# Altium footprint library Inductors_Power.PCBLIB: 45 footprints (part 1 of 3)
Each footprint in its own frame and in the unit in brackets; x right, y up, seen from the top. Pads: shape width x height; smd on the part's side, far side on the other; paste and mask are expansions set on the pad; w line width, h text height; cw(c..) or ccw(c..) is an arc to the next point about the centre after c.
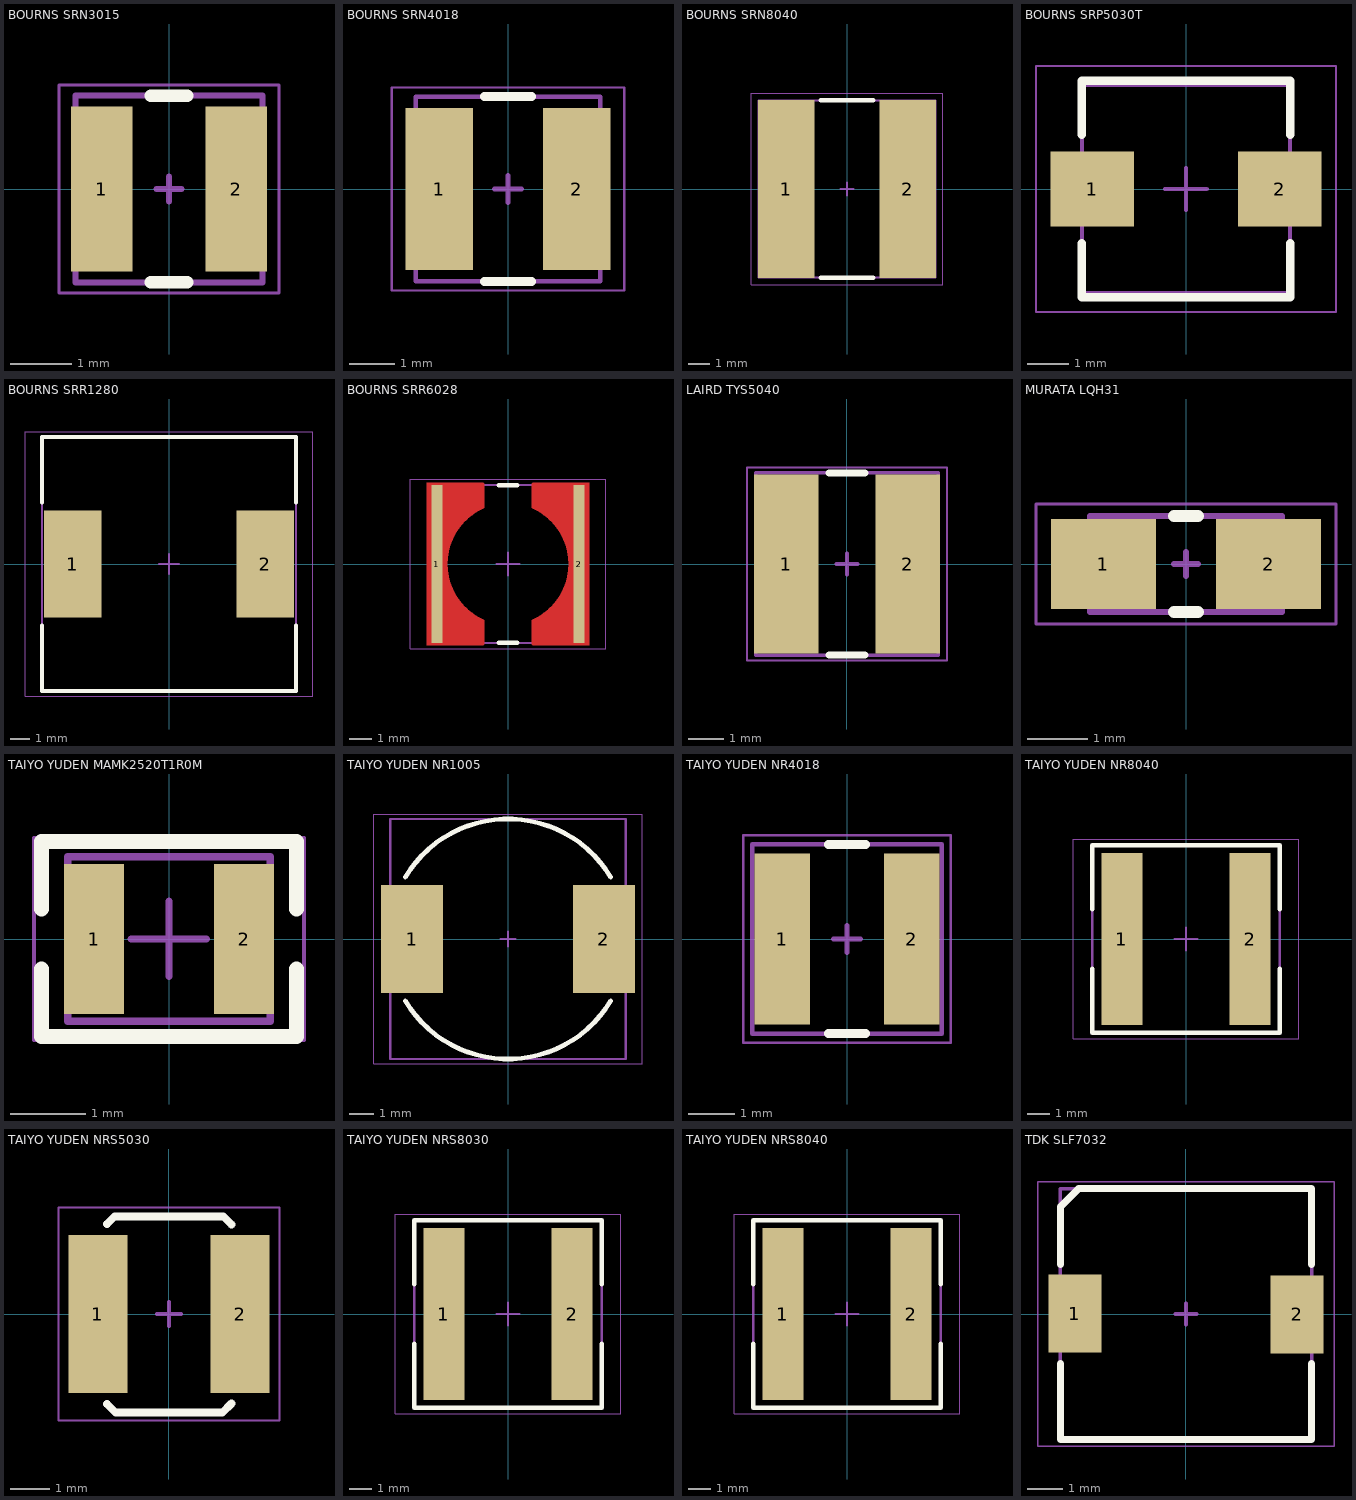
[diagram p0: the footprints below, top view; thin cyan lines are the x and y axes]

## BOURNS SRN3015 [mm] "Power Inductors, 2 Leads, Bourns, SRN3015-2R2M"
height 1.5
pads (2):
  rect 1x2.7 smd: 1(-1.1,0) 2(1.1,0)
Top Overlay:
  lines w0.2: -0.3,-1.525 0.3,-1.525 ; -0.3,1.525 0.3,1.525
Mechanical 13:
  lines w0.1: -1.525,-1.525 -1.525,1.525 1.525,1.525 1.525,-1.525 -1.525,-1.525
Mechanical 15 (Mech15):
  lines w0.05: -1.8,-1.7 1.8,-1.7 1.8,1.7 -1.8,1.7 -1.8,-1.7
  lines w0.1: -0.2,0 0.2,0 ; 0,-0.2 0,0.2
3D body "Bourns - SRN3015.step": height 1.5, standoff 0, extent -1.525,-1.525 1.525,1.525

## BOURNS SRN4018 [mm] "Power Inductor, 2-Leads, Bourns, SRN4018-220M"
height 1.8
pads (2):
  rect 1.5x3.6 smd: 1(-1.525,0) 2(1.525,0)
Top Overlay:
  lines w0.2: -0.525,-2.05 0.525,-2.05 ; -0.525,2.05 0.525,2.05
Mechanical 13:
  lines w0.1: -2.05,-2.05 -2.05,2.05 2.05,2.05 2.05,-2.05 -2.05,-2.05
Mechanical 15 (Mech15):
  lines w0.05: -2.575,-2.25 -2.575,2.25 2.575,2.25 2.575,-2.25 -2.575,-2.25
  lines w0.1: -0.3,0 0.3,0 ; 0,-0.3 0,0.3
3D body "Bourns - SRN4018.step": height 1.8, standoff 0, extent -2.05,-2.05 2.05,2.05

## BOURNS SRN8040 [mm] "Power Inductor, 2-Leads, Bourns, SRN8040-220M"
height 4
pads (2):
  rect 2.6x8.2 smd: 1(-2.8,0) 2(2.8,0)
Top Overlay:
  lines w0.2: -1.2,-4.075 1.2,-4.075 ; -1.2,4.075 1.2,4.075
Mechanical 13:
  lines w0.1: -4.075,-4.075 -4.075,4.075 4.075,4.075 4.075,-4.075 -4.075,-4.075
Mechanical 15 (Mech15):
  lines w0.05: -4.4,-4.4 4.4,-4.4 4.4,4.4 -4.4,4.4 -4.4,-4.4
  lines w0.1: -0.3,0 0.3,0 ; 0,-0.3 0,0.3
3D body "Bourns - SRN8040.step": height 4, standoff 0, extent -4.075,-4.075 4.075,4.075

## BOURNS SRP5030T [mm] "Precision Wire Wound Inductor, 2-Leads, Body 5.70x5.20mm, IPC Medium Density"
height 3
pads (2):
  rect 2x1.8 smd: 1(-2.25,0) 2(2.25,0)
Top Overlay:
  lines w0.2: -2.5,-1.3 -2.5,-2.6 2.5,-2.6 2.5,-1.3 ; -2.5,1.3 -2.5,2.6 2.5,2.6 2.5,1.3
Mechanical 13:
  lines w0.1: -2.5,-2.5 2.5,-2.5 2.5,2.5 -2.5,2.5 -2.5,-2.5
Mechanical 15 (Mech15):
  lines w0.05: -3.6,-2.95 3.6,-2.95 3.6,2.95 -3.6,2.95 -3.6,-2.95
  lines w0.1: -0.5,0 0.5,0 ; 0,-0.5 0,0.5
3D body "Bourns SRP5030T.STEP": height 3, standoff 0, extent -2.85,-2.6 2.85,2.6

## BOURNS SRR1280 [mm] "Precision Wire Wound Inductor, 2-Leads, Body 12.50x12.50mm, IPC Medium Density"
height 8
pads (2):
  rect 2.9x5.4 smd: 1(-4.85,0) 2(4.85,0)
Top Overlay:
  lines w0.2: -6.4,-3.1 -6.4,-6.4 6.4,-6.4 6.4,-3.1 ; -6.4,3.1 -6.4,6.4 6.4,6.4 6.4,3.1
Mechanical 13:
  lines w0.1: -6.4,-6.4 6.4,-6.4 6.4,6.4 -6.4,6.4 -6.4,-6.4
Mechanical 15 (Mech15):
  lines w0.05: -7.225,-6.65 7.225,-6.65 7.225,6.65 -7.225,6.65 -7.225,-6.65
  lines w0.1: -0.5,0 0.5,0 ; 0,-0.5 0,0.5
3D body "SRR1280.STEP": height 7.9, standoff 0, extent -6.25,-6.25 6.25,6.25

## BOURNS SRR6028 [mm] "Precision Wire Wound Inductor, 2-Leads, Body 6.80x6.80mm, IPC Medium Density"
height 3
pads (2):
  rect 0.5x7 smd: 1(-3.15,0) 2(3.15,0)
Top Layer:
  region: -3.6,3.6 -1.1,3.6 -1.1,2.5 -1.4,2.4 -1.7,2.1 -1.9,2 -2.1,1.7 -2.3,1.4 -2.5,1 -2.6,0.7 -2.7,0.3 -2.7,0 -3.6,0
  region: -3.6,-3.6 -1.1,-3.6 -1.1,-2.5 -1.4,-2.4 -1.7,-2.1 -1.9,-2 -2.1,-1.7 -2.3,-1.4 -2.5,-1 -2.6,-0.7 -2.7,-0.3 -2.7,0 -3.6,0
  region: 3.6,-3.6 1.1,-3.6 1.1,-2.5 1.4,-2.4 1.7,-2.1 1.9,-2 2.1,-1.7 2.3,-1.4 2.5,-1 2.6,-0.7 2.7,-0.3 2.7,0 3.6,0
  region: 3.6,3.6 1.1,3.6 1.1,2.5 1.4,2.4 1.7,2.1 1.9,2 2.1,1.7 2.3,1.4 2.5,1 2.6,0.7 2.7,0.3 2.7,0 3.6,0
  lines w0.1: -1.1,-3.55 -1.1,-2.5 ; -1.1,-2.5 cw(c0,0) -2.731,0 cw(c0,0) -1.1,2.5 ; -1.1,2.5 -1.1,3.55 ; 1.1,-3.55 1.1,-2.5 ; 1.1,-2.5 ccw(c0,0) 2.731,0 ccw(c0,0) 1.1,2.5 ; 1.1,2.5 1.1,3.55
Top Overlay:
  lines w0.2: -0.4,-3.5 0.4,-3.5 ; -0.4,3.5 0.4,3.5
Mechanical 13:
  lines w0.1: -3.5,-3.5 -3.5,3.5 3.5,3.5 3.5,-3.5 -3.5,-3.5
Mechanical 15 (Mech15):
  lines w0.05: -4.325,-3.75 -4.325,3.75 4.325,3.75 4.325,-3.75 -4.325,-3.75
  lines w0.1: -0.5,0 0.5,0 ; 0,-0.5 0,0.5
3D body "Bourns SRR6028.STEP": height 2.8, standoff 0, extent -3.4,-3.4 3.4,3.4

## LAIRD TYS5040 [mm] "Power Inductor, 2-Leads,Laird, TYS50402R2N-10"
height 4.2
pads (2):
  rect 1.8x5 smd: 1(-1.7,0) 2(1.7,0)
Top Overlay:
  lines w0.2: -0.5,-2.55 0.5,-2.55 ; -0.5,2.55 0.5,2.55
Mechanical 13:
  lines w0.1: -2.55,-2.55 -2.55,2.55 2.55,2.55 2.55,-2.55 -2.55,-2.55
Mechanical 15 (Mech15):
  lines w0.05: -2.8,-2.7 -2.8,2.7 2.8,2.7 2.8,-2.7 -2.8,-2.7
  lines w0.1: -0.3,0 0.3,0 ; 0,-0.3 0,0.3
3D body "Laird - TYS5040.step": height 4.2, standoff 0, extent -2.55,-2.55 2.55,2.55

## MURATA LQH31 [mm] "Power Inductor, 2-Leads,Murata, LQH31CN101K03L"
height 2
pads (2):
  rect 1.75x1.5 smd: 1(-1.375,0) 2(1.375,0)
Top Overlay:
  lines w0.2: -0.2,-0.8 0.2,-0.8 ; -0.2,0.8 0.2,0.8
Mechanical 13:
  lines w0.1: -1.6,-0.8 1.6,-0.8 1.6,0.8 -1.6,0.8 -1.6,-0.8
Mechanical 15 (Mech15):
  lines w0.05: -2.5,-1 2.5,-1 2.5,1 -2.5,1 -2.5,-1
  lines w0.1: -0.2,0 0.2,0 ; 0,-0.2 0,0.2
3D body "Murata - LQH31.step": height 2, standoff 0, extent -1.6,-0.8 1.6,0.8

## TAIYO YUDEN MAMK2520T1R0M [mm] "Inductor, 2-Leads, Body 2.50x2.00mm, IPC Medium Density"
height 1.2
pads (2):
  rect 0.8x2 smd: 1(-1,0) 2(1,0)
Top Overlay:
  lines w0.2: -1.7,-0.4 -1.7,-1.3 1.7,-1.3 1.7,-0.4 ; -1.7,0.4 -1.7,1.3 1.7,1.3 1.7,0.4
Mechanical 13:
  lines w0.1: -1.35,-1.1 1.35,-1.1 1.35,1.1 -1.35,1.1 -1.35,-1.1
Mechanical 15 (Mech15):
  lines w0.05: -1.8,-1.35 1.8,-1.35 1.8,1.35 -1.8,1.35 -1.8,-1.35
  lines w0.1: -0.5,0 0.5,0 ; 0,-0.5 0,0.5
3D body "MAMK2520T1R0M.STEP": height 1.2, standoff 0, extent -1.3,-1.025 1.3,1.025

## TAIYO YUDEN NR1005 [mm] "Power Inductor, 2-Leads,Taiyo Yuden, NR10050T100M"
height 5
pads (2):
  rect 2.6x4.5 smd: 1(-4,0) 2(4,0)
Top Overlay:
  lines w0.2: -4.279,-2.587 ccw(c0,0) 4.279,-2.587 ; -4.279,2.587 cw(c0,0) 4.279,2.587
Mechanical 13:
  lines w0.1: -4.9,-5 -4.9,5 4.9,5 4.9,-5 -4.9,-5
Mechanical 15 (Mech15):
  lines w0.05: -5.6,-5.2 5.6,-5.2 5.6,5.2 -5.6,5.2 -5.6,-5.2
  lines w0.1: -0.3,0 0.3,0 ; 0,-0.3 0,0.3
3D body "Taiyo Yuden - NR1005.step": height 5, standoff 0, extent -4.9,-5 4.9,5

## TAIYO YUDEN NR4018 [mm] "Power Inductor, 2-Leads,Taiyo Yuden, NR4018T100M"
height 1.8
pads (2):
  rect 1.2x3.7 smd: 1(-1.4,0) 2(1.4,0)
Top Overlay:
  lines w0.2: -0.4,-2.05 0.4,-2.05 ; -0.4,2.05 0.4,2.05
Mechanical 13:
  lines w0.1: -2.05,-2.05 -2.05,2.05 2.05,2.05 2.05,-2.05 -2.05,-2.05
Mechanical 15 (Mech15):
  lines w0.05: -2.25,-2.25 -2.25,2.25 -0.05,2.25 2.25,2.25 2.25,-1.25 2.25,-2.25 -2.25,-2.25
  lines w0.1: -0.3,0 0.3,0 ; 0,-0.3 0,0.3
3D body "Taiyo Yuden - NR4018.step": height 1.8, standoff 0, extent -2.05,-2.05 2.05,2.05

## TAIYO YUDEN NR8040 [mm] "Precision Wire Wound Inductor, 2-Leads, Body 8.00x8.00mm, IPC Medium Density"
height 4
pads (2):
  rect 1.8x7.5 smd: 1(-2.8,0) 2(2.8,0)
Top Overlay:
  lines w0.2: -4.1,-1.3 -4.1,-4.1 4.1,-4.1 4.1,-1.3 ; -4.1,1.3 -4.1,4.1 4.1,4.1 4.1,1.3
Mechanical 13:
  lines w0.1: -4.1,-4.1 -4.1,4.1 4.1,4.1 4.1,-4.1 -4.1,-4.1
Mechanical 15 (Mech15):
  lines w0.05: -4.925,-4.35 -4.925,4.35 4.925,4.35 4.925,-4.35 -4.925,-4.35
  lines w0.1: -0.5,0 0.5,0 ; 0,-0.5 0,0.5
3D body "Taiyo Yuden - NRS8040.step": height 4, standoff 0, extent -4,-4 4,4

## TAIYO YUDEN NRS5030 [mm] "Inductor, 2-Leads,Taiyo Yuden, NRS5030T4R7MMGJV"
height 3
pads (2):
  rect 1.5x4 smd: 1(-1.8,0) 2(1.8,0)
Top Overlay:
  lines w0.2: -1.575,-2.275 -1.35,-2.5 1.35,-2.5 1.581,-2.269 ; -1.575,2.275 -1.375,2.475 1.375,2.475 1.587,2.262
Mechanical 15 (Mech15):
  lines w0.05: -2.8,-2.7 2.8,-2.7 2.8,2.7 -2.8,2.7 -2.8,-2.7
  lines w0.1: -0.3,0 0.3,0 ; 0,-0.3 0,0.3
3D body "Taiyo Yuden - NRS5030.step": height 3, standoff 0, extent -2.5,-2.5 2.5,2.5

## TAIYO YUDEN NRS8030 [mm] "Precision Wire Wound Inductor, 2-Leads, Body 8.00x8.00mm, IPC Medium Density"
height 3
pads (2):
  rect 1.8x7.5 smd: 1(-2.8,0) 2(2.8,0)
Top Overlay:
  lines w0.2: -4.1,-1.3 -4.1,-4.1 4.1,-4.1 4.1,-1.3 ; -4.1,1.3 -4.1,4.1 4.1,4.1 4.1,1.3
Mechanical 13:
  lines w0.1: -4.1,-4.1 -4.1,4.1 4.1,4.1 4.1,-4.1 -4.1,-4.1
Mechanical 15 (Mech15):
  lines w0.05: -4.925,-4.35 -4.925,4.35 4.925,4.35 4.925,-4.35 -4.925,-4.35
  lines w0.1: -0.5,0 0.5,0 ; 0,-0.5 0,0.5
3D body "Taiyo Yuden - NRS8030.step": height 3, standoff 0, extent -4,-4 4,4

## TAIYO YUDEN NRS8040 [mm] "Precision Wire Wound Inductor, 2-Leads, Body 8.00x8.00mm, IPC Medium Density"
height 4
pads (2):
  rect 1.8x7.5 smd: 1(-2.8,0) 2(2.8,0)
Top Overlay:
  lines w0.2: -4.1,-1.3 -4.1,-4.1 4.1,-4.1 4.1,-1.3 ; -4.1,1.3 -4.1,4.1 4.1,4.1 4.1,1.3
Mechanical 13:
  lines w0.1: -4.1,-4.1 -4.1,4.1 4.1,4.1 4.1,-4.1 -4.1,-4.1
Mechanical 15 (Mech15):
  lines w0.05: -4.925,-4.35 -4.925,4.35 4.925,4.35 4.925,-4.35 -4.925,-4.35
  lines w0.1: -0.5,0 0.5,0 ; 0,-0.5 0,0.5
3D body "Taiyo Yuden - NRS8040.step": height 4, standoff 0, extent -4,-4 4,4

## TDK SLF7032 [mm] "Power Inductor, 2-Leads, TDK, SLF7032T-221MR29-2PF"
height 3.4
pads (2):
  rect 1.5x2.2 smd: 1(-3.15,0.013) 2(3.15,-0.012)
Top Overlay:
  lines w0.2: -3.56,-1.4 -3.56,-3.55 3.56,-3.55 3.56,-1.4 ; -3.56,1.4 -3.56,3.04 -3.05,3.55 3.56,3.55 3.56,1.4
Mechanical 13:
  lines w0.1: -3.56,-3.55 -3.56,3.55 3.56,3.55 3.56,-3.55 -3.56,-3.55
Mechanical 15 (Mech15):
  lines w0.05: -4.2,-3.75 4.2,-3.75 4.2,3.75 -4.2,3.75 -4.2,-3.75
  lines w0.1: -0.3,0 0.3,0 ; 0,-0.3 0,0.3
3D body "TDK - SLF7032.step": height 3.39, standoff 0, extent -3.56,-3.563 3.56,3.537